# Altium schematic symbol library TL76-5.SchLib: 1 symbol
Pins are listed as number, name and electrical type; pins without a type are passive.

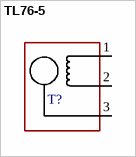
[diagram p0: symbol TL76-5]

## TL76-5
designator T?  (value not drawn)
footprint TL76-5
pins: 1 17, 2, 3